# Altium footprint library EXP_V1.PcbLib: 16 footprints
Each footprint in its own frame and in the unit in brackets; x right, y up, seen from the top. Pads: shape width x height; smd on the part's side, far side on the other; paste and mask are expansions set on the pad; w line width, h text height; cw(c..) or ccw(c..) is an arc to the next point about the centre after c.
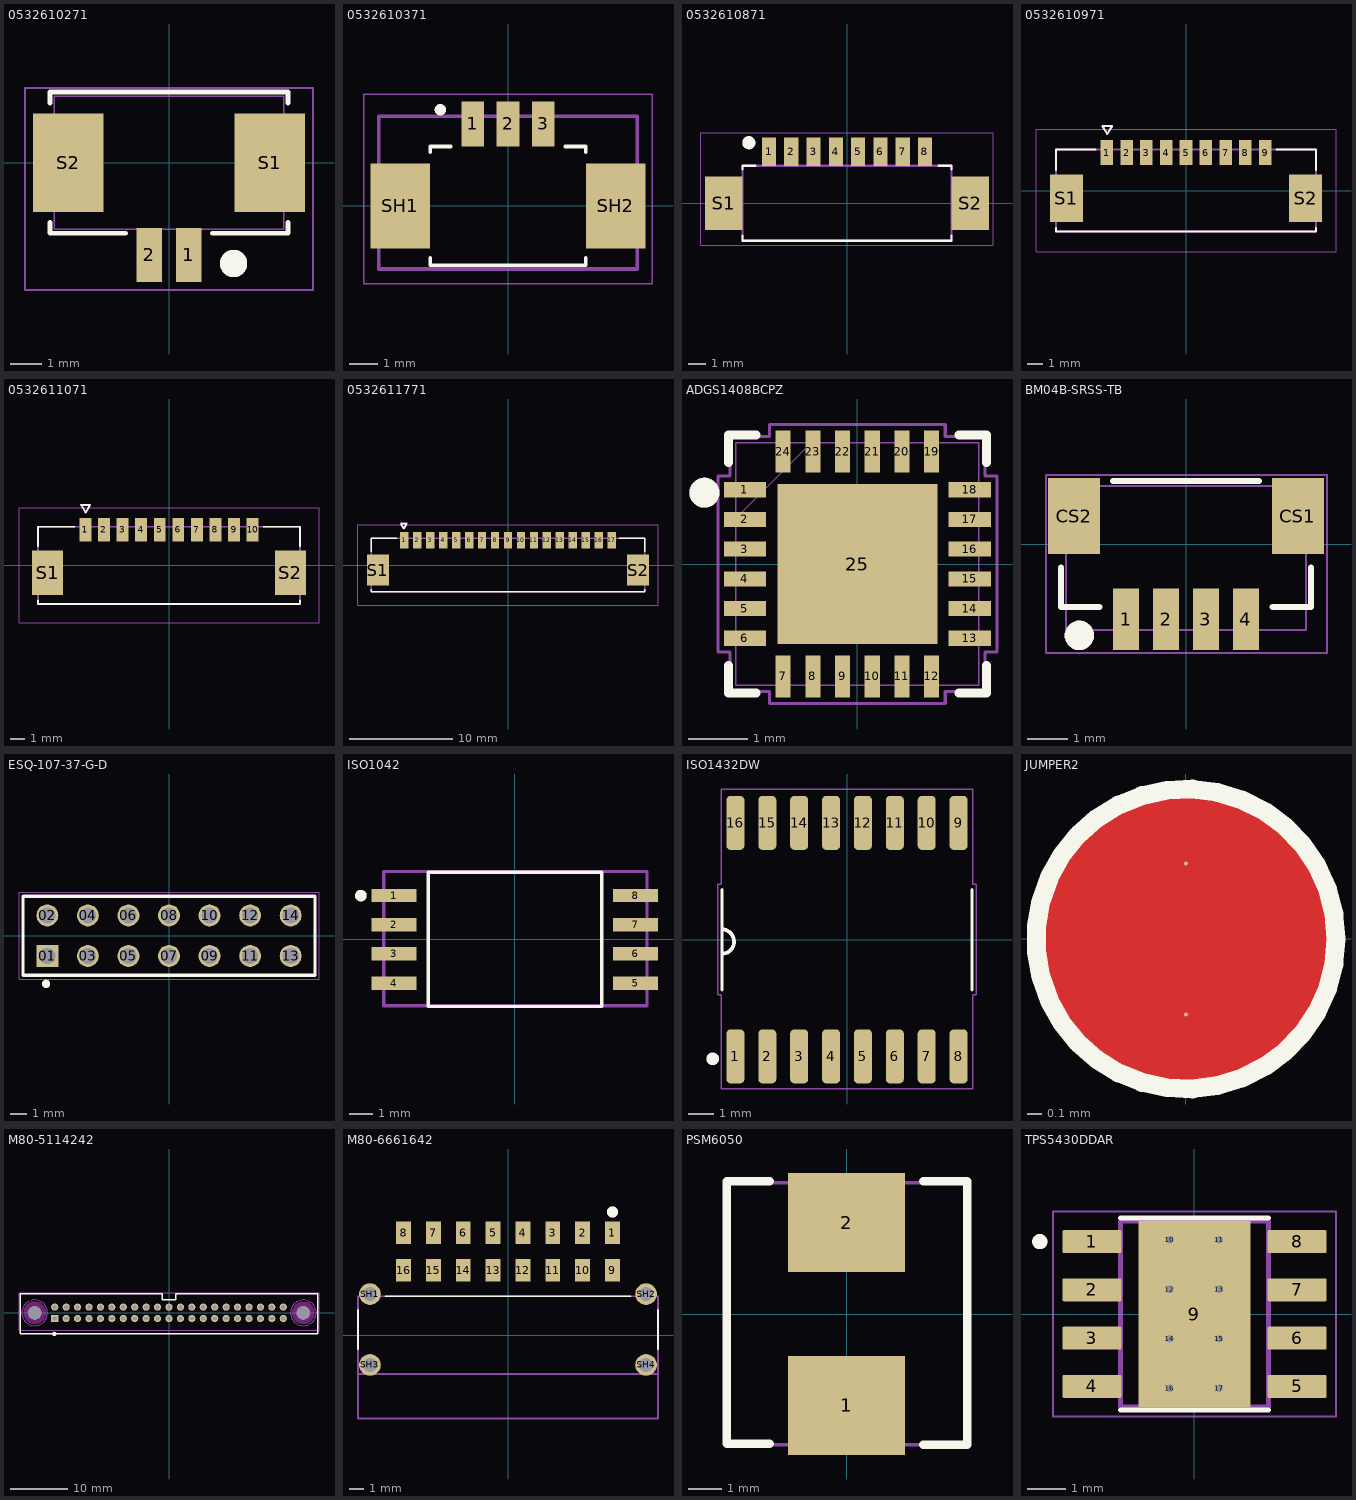
[diagram p0: the footprints below, top view; thin cyan lines are the x and y axes]

## 0532610271 [mil] "CONN HEADER SMD R/A 2POS 1.25MM"
pads (4):
  rect 32x67 smd paste+0 mask+0: 1(24.61,-114.35) 2(-24.61,-114.35)
  rect 87x122 smd paste+0 mask+0: S1(125,-0.18) S2(-125,-0.18)
Top Overlay:
  circle w20: c80,-125 r7
  lines w6: -147.5,-74.28 -147.5,-87.5 -53.71,-87.5 ; -147.5,73.92 -147.5,87.5 147.5,87.5 147.5,73.92 ; 53.71,-87.5 147.5,-87.5 147.5,-74.28
Mechanical 13:
  circle w20: c80,-125 r7
  lines w2: -142.5,-82.5 -142.5,82.5 142.5,82.5 142.5,-82.5 -142.5,-82.5
Mechanical 15:
  lines w2: -178.5,-157.85 178.5,-157.85 178.5,92.5 -178.5,92.5 -178.5,-157.85
3D body "0532610271.step": height 133.86, standoff 0, extent -150.59,-115 150.59,89.72

## 0532610371 [mm] "CONN HEADER SMD R/A 3POS 1.25MM"
pads (5):
  rect 0.8x1.6 smd: 1(-1.25,2.9) 2(0,2.9) 3(1.25,2.9)
  rect 2.1x3 smd: SH1(-3.8,0) SH2(3.8,0)
Top Overlay:
  circle w0.2: c-2.39,3.4 r0.1
  lines w0.127: -2.75,-1.825 -2.75,-2.1 2.75,-2.1 2.75,-1.825 ; -2.75,1.9 -2.75,2.1 -2.025,2.1 ; 2.025,2.1 2.75,2.1 2.75,1.9
Top Assembly:
  lines w0.127: -4.572,-2.228 -4.572,3.175 4.572,3.175 4.572,-2.228 -4.572,-2.228
  text "'.Designator'" at -9.318,-1.454 h1.9
Mechanical 13:
  circle w0.2: c-2.39,3.4 r0.1
Mechanical 15:
  lines w0.05: -5.1,-2.75 5.1,-2.75 5.1,3.95 -5.1,3.95 -5.1,-2.75
3D body "0532610371.step": height 3.43, standoff 0.03, extent -4.45,-2.118 4.45,3.082

## 0532610871 [mm] "CONN HEADER SMD R/A 8POS 1.25MM"
pads (10):
  rect 0.8x1.6 smd: 1(-4.375,2.9) 2(-3.125,2.9) 3(-1.875,2.9) 4(-0.625,2.9) 5(0.625,2.9) 6(1.875,2.9) 7(3.125,2.9) 8(4.375,2.9)
  rect 2.1x3 smd: S1(-6.925,0) S2(6.925,0)
Top Overlay:
  circle w0.381: c-5.515,3.4 r0.178
  lines w0.127: -5.875,-1.825 -5.875,-2.1 5.875,-2.1 5.875,-1.825 ; -5.875,1.9 -5.875,2.1 -5.15,2.1 ; 5.15,2.1 5.875,2.1 5.875,1.9
Top Assembly:
  circle w0.381: c-5.515,3.4 r0.178
  lines w0.127: -5.875,-2.1 5.875,-2.1 5.875,2.1 -5.875,2.1 -5.875,-2.1
  text "'.Designator'" at -9.318,-1.454 h1.8
Mechanical 15:
  lines w0.05: -8.225,-2.35 8.225,-2.35 8.225,3.95 -8.225,3.95 -8.225,-2.35

## 0532610971 [mm] "CONN HEADER SMD R/A 9POS 1.25MM"
pads (11):
  rect 0.8x1.6 smd mask+0.076: 1(-5,2.4) 2(-3.75,2.4) 3(-2.5,2.4) 4(-1.25,2.4) 5(0,2.4) 6(1.25,2.4) 7(2.5,2.4) 8(3.75,2.4) 9(5,2.4)
  rect 2.1x3 smd mask+0.076: S1(-7.55,-0.5) S2(7.55,-0.5)
Top Overlay:
  lines w0.127: -8.2,-2.35 -8.2,-2.6 8.2,-2.6 8.2,-2.35 ; -8.2,1.3 -8.2,2.6 -5.72,2.6 ; 5.72,2.6 8.2,2.6 8.2,1.3 ; -5.278,4.067 -4.978,3.567 -4.678,4.067 -5.278,4.067
Top Assembly:
  text "'.Designator'" at -11.717,-2.718 h1.9
Mechanical 13:
  lines w0.127: -8.2,-2.6 -8.2,2.6 8.2,2.6 8.2,-2.6 -8.2,-2.6 ; -5.278,4.067 -4.978,3.567 -4.678,4.067 -5.278,4.067
Mechanical 15:
  lines w0.05: -9.47,-3.87 -9.47,3.87 9.47,3.87 9.47,-3.87 -9.47,-3.87
3D body "0532610971.stp": height 3.2, standoff -0.2, extent -8.2,-2.667 8.2,2.533

## 0532611071 [mm] "CONN HEADER SMD R/A 10POS 1.25MM"
pads (12):
  rect 0.8x1.6 smd mask+0.076: 1(-5.625,2.4) 2(-4.375,2.4) 3(-3.125,2.4) 4(-1.875,2.4) 5(-0.625,2.4) 6(0.625,2.4) 7(1.875,2.4) 8(3.125,2.4) 9(4.375,2.4) 10(5.625,2.4)
  rect 2.1x3 smd mask+0.076: S1(-8.175,-0.5) S2(8.175,-0.5)
Top Overlay:
  lines w0.127: -8.825,-2.35 -8.825,-2.6 8.825,-2.6 8.825,-2.35 ; -8.825,1.3 -8.825,2.6 -6.345,2.6 ; 6.345,2.6 8.825,2.6 8.825,1.3 ; -5.913,4.057 -5.313,4.057 -5.613,3.557 -5.913,4.057
Top Assembly:
  lines w0.127: -8.825,-2.6 -8.825,2.6 8.825,2.6 8.825,-2.6 -8.825,-2.6 ; -5.913,4.057 -5.613,3.557 -5.313,4.057 -5.913,4.057
  text "'.Designator'" at -9.318,-1.454 h1.6
Mechanical 15:
  lines w0.05: -10.095,-3.87 10.095,-3.87 10.095,3.87 -10.095,3.87 -10.095,-3.87

## 0532611771 [mm] "CONN HEADER SMD R/A 17POS 1.25MM"
pads (19):
  rect 0.8x1.6 smd mask+0.076: 1(-10,2.4) 2(-8.75,2.4) 3(-7.5,2.4) 4(-6.25,2.4) 5(-5,2.4) 6(-3.75,2.4) 7(-2.5,2.4) 8(-1.25,2.4) 9(0,2.4) 10(1.25,2.4) 11(2.5,2.4) 12(3.75,2.4) 13(5,2.4) 14(6.25,2.4) 15(7.5,2.4) 16(8.75,2.4) 17(10,2.4)
  rect 2.1x3 smd mask+0.076: S1(-12.55,-0.5) S2(12.55,-0.5)
Top Overlay:
  lines w0.127: -13.2,-2.35 -13.2,-2.6 13.2,-2.6 13.2,-2.35 ; -13.2,1.3 -13.2,2.6 -10.72,2.6 ; 10.72,2.6 13.2,2.6 13.2,1.3 ; -10.358,3.987 -10.058,3.487 -9.758,3.987 -10.358,3.987
Top Assembly:
  lines w0.127: -13.2,-2.6 13.2,-2.6 13.2,2.6 -13.2,2.6 -13.2,-2.6 ; -10.333,4.064 -9.733,4.064 -10.033,3.564 -10.333,4.064
  text "'.Designator'" at -9.318,-1.454 h1.9
Mechanical 15:
  lines w0.05: -14.47,-3.87 -14.47,3.87 14.47,3.87 14.47,-3.87 -14.47,-3.87
3D body "0532611771.stp": height 3.5, standoff 0, extent -13.39,-2.425 13.39,3.145

## ADGS1408BCPZ [mil] "IC MUX 8:1 4.7OHM 24LFCSP"
pads (25):
  rect 28x10 smd paste+0 mask+0: 1(-74.5,49.21) 2(-74.5,29.53) 3(-74.5,9.84) 4(-74.5,-9.84) 5(-74.5,-29.53) 6(-74.5,-49.21) 13(74.5,-49.21) 14(74.5,-29.53) 15(74.5,-9.84) 16(74.5,9.84) 17(74.5,29.53) 18(74.5,49.21)
  rect 10x28 smd paste+0 mask+0: 7(-49.21,-74.5) 8(-29.53,-74.5) 9(-9.84,-74.5) 10(9.84,-74.5) 11(29.53,-74.5) 12(49.21,-74.5) 19(49.21,74.5) 20(29.53,74.5) 21(9.84,74.5) 22(-9.84,74.5) 23(-29.53,74.5) 24(-49.21,74.5)
  rect 106x106 smd paste-53 mask+0: 25(0,0)
Top Overlay:
  circle w10: c-101.38,47.24 r4.92
  lines w6: -85.5,-67.31 -85.5,-85.5 -67.31,-85.5 ; -85.5,67.31 -85.5,85.5 -67.31,85.5 ; 67.31,-85.5 85.5,-85.5 85.5,-67.31 ; 67.31,85.5 85.5,85.5 85.5,67.31
Top Paste:
  region: -3.94,49.06 -49.06,49.06 -49.06,3.94 -3.94,3.94
  region: -3.94,-3.94 -49.06,-3.94 -49.06,-49.06 -3.94,-49.06
  region: 49.06,49.06 3.94,49.06 3.94,3.94 49.06,3.94
  region: 49.06,-3.94 3.94,-3.94 3.94,-49.06 49.06,-49.06
Top Assembly:
  circle w10: c-101.38,47.24 r4.92
  text "'.Designator'" at -366.84,-58.21 h39.37
Mechanical 13:
  lines w1: -80.5,30.5 -30.5,80.5 ; -80.5,-80.5 80.5,-80.5 80.5,80.5 -80.5,80.5 -80.5,-80.5 ; -80.5,-55.21 -80.5,-43.21 -80.5,-55.21 ; -80.5,-35.53 -80.5,-23.53 -80.5,-35.53 ; -80.5,-15.84 -80.5,-3.84 -80.5,-15.84 ; -80.5,3.84 -80.5,15.84 -80.5,3.84 ; -80.5,23.53 -80.5,35.53 -80.5,23.53 ; -80.5,43.21 -80.5,55.21 -80.5,43.21 ; -55.21,-80.5 -43.21,-80.5 -55.21,-80.5 ; -55.21,80.5 -43.21,80.5 -55.21,80.5 ; -35.53,-80.5 -23.53,-80.5 -35.53,-80.5 ; -35.53,80.5 -23.53,80.5 -35.53,80.5 ; -15.84,-80.5 -3.84,-80.5 -15.84,-80.5 ; -15.84,80.5 -3.84,80.5 -15.84,80.5 ; 3.84,-80.5 15.84,-80.5 3.84,-80.5 ; 3.84,80.5 15.84,80.5 3.84,80.5 ; 23.53,-80.5 35.53,-80.5 23.53,-80.5 ; 23.53,80.5 35.53,80.5 23.53,80.5 ; 43.21,-80.5 55.21,-80.5 43.21,-80.5 ; 43.21,80.5 55.21,80.5 43.21,80.5 ; 80.5,-55.21 80.5,-43.21 80.5,-55.21 ; 80.5,-35.53 80.5,-23.53 80.5,-35.53 ; 80.5,-15.84 80.5,-3.84 80.5,-15.84 ; 80.5,3.84 80.5,15.84 80.5,3.84 ; 80.5,23.53 80.5,35.53 80.5,23.53 ; 80.5,43.21 80.5,55.21 80.5,43.21
Mechanical 15:
  lines w2: -92.5,-58.21 -84.5,-58.21 -84.5,-84.5 -58.21,-84.5 -58.21,-92.5 58.21,-92.5 58.21,-84.5 84.5,-84.5 84.5,-58.21 92.5,-58.21 92.5,58.21 84.5,58.21 84.5,84.5 58.21,84.5 58.21,92.5 -58.21,92.5 -58.21,84.5 -84.5,84.5 -84.5,58.21 -92.5,58.21 -92.5,-58.21
3D body "CP-24-17_ADI.step": height 39.09, standoff 0, extent -80.51,-80.51 80.51,80.51

## BM04B-SRSS-TB [mil] "CONN HEADER SMD 4POS 1MM"
pads (6):
  rect 26x61 smd paste+0 mask+0: 1(-59.06,-74.1) 2(-19.68,-74.1) 3(19.68,-74.1) 4(59.06,-74.1)
  rect 51x75 smd paste-99999 mask+0: CS1(110.24,27.47) CS2(-110.24,27.47)
Top Overlay:
  circle w15: c-105,-90 r7
  lines w6: -123,-23.13 -123,-62 -85.16,-62 ; -71.64,62 71.64,62 ; 85.16,-62 123,-62 123,-23.13
Top Assembly:
  circle w15: c-105,-90 r7
  lines w2: -118,-84.65 -118,57 118,57 118,-84.65 -118,-84.65
  text "'.Designator'" at -366.84,-57.23 h59.06
Mechanical 15:
  lines w2: -137.8,-107.28 -137.8,67.91 138.78,67.91 138.78,-107.28 -137.8,-107.28
3D body "BM04B-SRSS-TB.STEP": height 172.26, standoff 1, extent -118.11,-84.65 118.11,57.09

## ESQ-107-37-G-D [mm] "CONN SOCKET 14POS 0.1 GOLD PCB"
pads (14):
  rect 1.37x1.37 hole 1.02: 01(-7.62,-1.27)
  round 1.37 hole 1.02: 02(-7.62,1.27) 03(-5.08,-1.27) 04(-5.08,1.27) 05(-2.54,-1.27) 06(-2.54,1.27) 07(0,-1.27) 08(0,1.27) 09(2.54,-1.27) 10(2.54,1.27) 11(5.08,-1.27) 12(5.08,1.27) 13(7.62,-1.27) 14(7.62,1.27)
Top Overlay:
  circle w0.254: c-7.701,-3.012 r0.127
  lines w0.2: -9.145,-2.475 9.145,-2.475 9.145,2.475 -9.145,2.475 -9.145,-2.475
Top Assembly:
  circle w0.254: c-7.701,-3.012 r0.127
  lines w0.1: -9.145,-2.475 -9.145,2.475 ; -9.145,-2.475 9.145,-2.475 ; -9.145,-2.475 -9.145,2.475 ; -9.145,2.475 9.145,2.475 ; -9.145,2.475 9.145,2.475 ; 9.145,-2.475 9.145,2.475 ; 9.145,-2.475 9.145,2.475
  text "'.Designator'" at -11.017,-1.679 h1.9
Mechanical 15:
  lines w0.05: -9.395,-2.725 9.395,-2.725 9.395,2.725 -9.395,2.725 -9.395,-2.725
3D body "ESQ-107-37-G-D.step": height 11.13, standoff -2.21, extent -9.144,-2.54 9.144,2.54

## ISO1042 [mm] "IC TRANSCEIVER FULL 1/1 8SOIC"
pads (8):
  rect 1.954x0.582 smd paste+0 mask+0: 1(-5.251,1.905) 2(-5.251,0.635) 3(-5.251,-0.635) 4(-5.251,-1.905) 5(5.251,-1.905) 6(5.251,-0.635) 7(5.251,0.635) 8(5.251,1.905)
Top Overlay:
  circle w0.25: c-6.7,1.9 r0.125
  lines w0.15: -3.774,-2.925 3.774,-2.925 3.774,2.925 -3.774,2.925 -3.774,-2.925
Top Assembly:
  circle w0.25: c-6.7,1.9 r0.125
  lines w0.15: -5.7,-2.9 -5.7,2.95 5.75,2.95 5.75,-2.9 -5.7,-2.9
  text "'.Designator'" at -11.584,-1.754 h2
3D body "DWV0008A.stp": height 2.67, standoff -0.03, extent -5.768,-2.925 5.768,2.925

## ISO1432DW [mm] "IC TRANSCEIVER FULL 1/1 16SOIC"
pads (16):
  rrect50% 0.72x2.16 smd: 1(-4.445,-4.65) 2(-3.175,-4.65) 3(-1.905,-4.65) 4(-0.635,-4.65) 5(0.635,-4.65) 6(1.905,-4.65) 7(3.175,-4.65) 8(4.445,-4.65) 9(4.445,4.65) 10(3.175,4.65) 11(1.905,4.65) 12(0.635,4.65) 13(-0.635,4.65) 14(-1.905,4.65) 15(-3.175,4.65) 16(-4.445,4.65)
Top Overlay:
  circle w0.254: c-5.35,-4.75 r0.125
  lines w0.12: -4.985,-2 -4.985,2 ; 4.985,-2 4.985,2
  lines w0.154: -4.913,-0.558 ccw(c-4.981,-0.078) -4.9,0.4
Top Assembly:
  lines w0.05: -5.15,-2.2 -5.005,-2.2 -5.005,-5.95 5.005,-5.95 5.005,-2.2 5.15,-2.2 5.15,2.2 5.005,2.2 5.005,6 -5.005,6 -5.005,2.2 -5.15,2.2 -5.15,-2.2
  text "'.Designator'" at -9.318,-1.479 h1.9
3D body "ISO1432DW.step": height 2.65, standoff 0, extent -5.15,-5.15 5.15,5.15

## JUMPER2 [mil]
pads (2):
  round 1 smd: 1(-0.01,19.99) 2(0,-20.01)
Top Layer:
  pour cut-out: -39.68,-0.07 -39.68,3.83 -38.16,11.49 -35.17,18.7 -30.83,25.19 -25.31,30.71 -18.82,35.05 -11.61,38.04 -3.96,39.56 -0.05,39.56 3.85,39.56 11.51,38.04 18.72,35.05 25.21,30.71 30.73,25.19 35.07,18.7 38.05,11.49 39.58,3.83 39.58,-0.07 39.58,-3.97 38.05,-11.63 35.07,-18.84 30.73,-25.33 25.21,-30.85 18.72,-35.19 11.51,-38.18 3.85,-39.7 -0.05,-39.7 -3.96,-39.7 -11.61,-38.17 -18.82,-35.19 -25.31,-30.85 -30.83,-25.33 -35.17,-18.84 -38.16,-11.63 -39.68,-3.97
  region: -28.94,8.18 28.92,8.18 28.52,10.17 27.17,13.99 25.32,17.59 22.99,20.9 20.23,23.87 17.1,26.43 13.64,28.54 9.93,30.16 6.03,31.25 2.02,31.8 -2.03,31.8 -6.05,31.25 -9.95,30.16 -13.66,28.54 -17.12,26.43 -20.25,23.87 -23.01,20.9 -25.34,17.59 -27.19,13.99 -28.54,10.17
  region: 28.93,-8.2 -28.93,-8.2 -28.52,-10.18 -27.18,-14 -25.33,-17.6 -23,-20.92 -20.24,-23.88 -17.1,-26.44 -13.65,-28.55 -9.93,-30.17 -6.03,-31.26 -2.02,-31.82 2.03,-31.82 6.04,-31.26 9.94,-30.17 13.65,-28.55 17.11,-26.44 20.25,-23.88 23,-20.92 25.33,-17.6 27.19,-14 28.53,-10.18
Top Overlay:
  circle w5: c0,-0.01 r39.68

## M80-5114242 [mm] "CONN HEADER VERT 42POS 2MM"
pads (44):
  rect 1.258x1.258 / inner round 1.258 / far side rect 1.258x1.258 hole 0.75: 1(-20,-1)
  round 1.258 hole 0.75: 2(-18,-1) 3(-16,-1) 4(-14,-1) 5(-12,-1) 6(-10,-1) 7(-8,-1) 8(-6,-1) 9(-4,-1) 10(-2,-1) 11(0,-1) 12(2,-1) 13(4,-1) 14(6,-1) 15(8,-1) 16(10,-1) 17(12,-1) 18(14,-1) 19(16,-1) 20(18,-1) 21(20,-1) 22(-20,1) 23(-18,1) 24(-16,1) 25(-14,1) 26(-12,1) 27(-10,1) 28(-8,1) 29(-6,1) 30(-4,1) 31(-2,1) 32(0,1) 33(2,1) 34(4,1) 35(6,1) 36(8,1) 37(10,1) 38(12,1) 39(14,1) 40(16,1) 41(18,1) 42(20,1)
  round 2.3 hole 2.3 unplated: ""(-23.5,0) ""(23.5,0)
Top Overlay:
  circle w0.381: c-20.066,-3.683 r0.178
  lines w0.254: -26.035,-3.683 26.035,-3.683 26.035,3.302 1.143,3.302 1.143,2.286 -1.143,2.286 -1.143,3.302 -26.035,3.302 -26.035,-3.683
Keep-Out Layer:
  circle w2: c23.5,0 r1
  circle w2: c-23.5,0 r1
  circle w2: c-23.5,0 r1
  circle w2: c23.5,0 r1
Top Assembly:
  circle w0.254: c-20.066,-3.683 r0.254
  text "'.Designator'" at -9.318,-1.454 h2
Mechanical 15:
  lines w0.05: -26.25,-3.025 26.25,-3.025 26.25,3.525 -26.25,3.525 -26.25,-3.025
Mechanical 16:
  circle w0.05: c-23.5,0 r2.25
  circle w0.05: c23.5,0 r2.25
3D body "m80-5114242.stp": height 5.66, standoff -5.94, extent -26,-3.275 26,2.775

## M80-6661642 [mm] "CONN HEADER SMD R/A 16POS 2MM"
pads (20):
  rect 1x1.5 smd: 1(7,6.85) 2(5,6.85) 3(3,6.85) 4(1,6.85) 5(-1,6.85) 6(-3,6.85) 7(-5,6.85) 8(-7,6.85) 9(7,4.35) 10(5,4.35) 11(3,4.35) 12(1,4.35) 13(-1,4.35) 14(-3,4.35) 15(-5,4.35) 16(-7,4.35)
  round 1.458 hole 0.95: SH1(-9.25,2.75) SH2(9.25,2.75) SH3(-9.25,-2) SH4(9.25,-2)
Top Overlay:
  circle w0.381: c7,8.25 r0.178
  lines w0.127: -10.05,-0.95 -10.05,1.7 ; -8.2,2.6 8.2,2.6 ; 10.05,-0.95 10.05,1.7
Top Assembly:
  circle w0.381: c7,8.25 r0.178
  lines w0.127: -10.05,-2.6 -10.05,2.6 10.05,2.6 10.05,-2.6 ; -10.05,-2.6 -10.05,-5.6 10.05,-5.6 10.05,-2.6 ; -10.05,-2.6 10.05,-2.6
  text "'.Designator'" at -9.318,-1.454 h2
3D body "m80-6661642.stp": height 5.98, standoff -2.92, extent -9.95,-5.831 9.95,7.119

## PSM6050 [mm]
pads (2):
  rect 3.5x2.95 smd: 1(0,-2.725) 2(0,2.725)
Top Overlay:
  lines w0.254: -2.286,-3.875 -3.577,-3.875 -3.577,3.955 -2.286,3.955 ; 2.286,-3.898 3.603,-3.898 3.603,3.955 2.286,3.955
Mechanical 1:
  text "'.Designator'" at -4.233,-0.672 h1.6
Top Courtyard:
  lines w0.1: -3.553,-3.903 3.561,-3.903 3.561,3.914 -3.553,3.914 -3.553,-3.903
3D body "SRP7050TA.stp": height -0.39, standoff -5.34, extent -3.3,-3.65 3.3,3.65

## TPS5430DDAR [mm] "IC REG BUCK ADJ 3A 8SOPWR"
pads (17):
  rrect10% 1.55x0.6 smd mask+0: 1(-2.7,1.905) 2(-2.7,0.635) 3(-2.7,-0.635) 4(-2.7,-1.905) 5(2.7,-1.905) 6(2.7,-0.635) 7(2.7,0.635) 8(2.7,1.905)
  rect 2.95x4.9 smd paste-3 mask+0: 9(0,0)
  round 0.3 hole 0.2 mask+0: 10(-0.65,1.95) 11(0.65,1.95) 12(-0.65,0.65) 13(0.65,0.65) 14(-0.65,-0.65) 15(0.65,-0.65) 16(-0.65,-1.95) 17(0.65,-1.95)
Top Overlay:
  circle w0.2: c-4.07,1.905 r0.1
  lines w0.127: -1.95,-2.525 1.95,-2.525 ; -1.95,2.525 1.95,2.525
Top Paste:
  region: 1.3,-1.55 -1.3,-1.55 -1.3,1.55 1.3,1.55
Top Solder:
  drawing of 9 lines, arcs and shapes, not listed
Mechanical 13:
  circle w0.2: c-4.07,1.905 r0.1
  lines w0.127: -1.95,-2.45 1.95,-2.45 1.95,2.45 -1.95,2.45 -1.95,-2.45
Mechanical 15:
  lines w0.05: -3.725,-2.7 3.725,-2.7 3.725,2.7 -3.725,2.7 -3.725,-2.7
3D body "step_temp.STEP": height 1.7, standoff 0, extent -3,-2.45 3,2.45